# Altium footprint library DIP794W56P254L3467H406Q28N.PcbLib: 1 footprints
Each footprint in its own frame and in the unit in brackets; x right, y up, seen from the top. Pads: shape width x height; smd on the part's side, far side on the other; paste and mask are expansions set on the pad; w line width, h text height; cw(c..) or ccw(c..) is an arc to the next point about the centre after c.
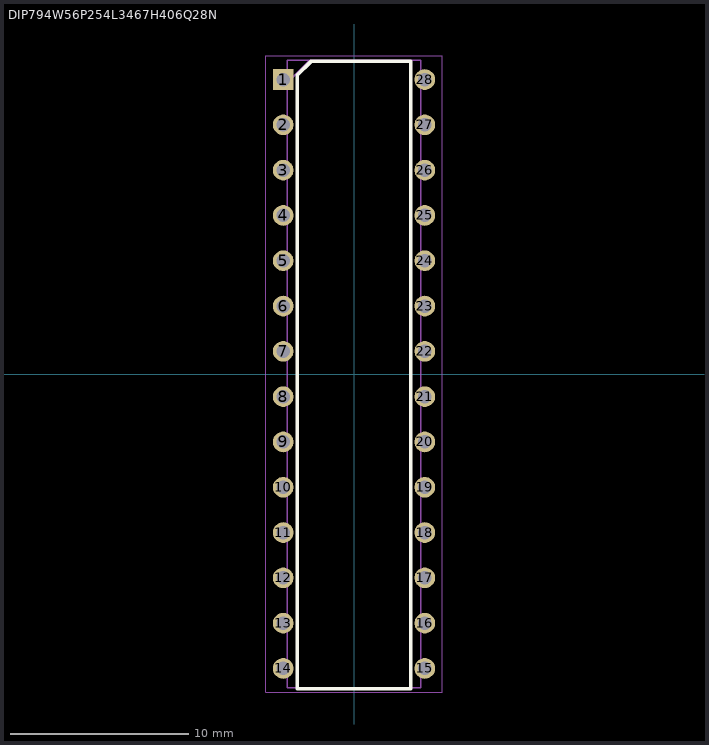
[diagram p0: the footprint, top view; thin cyan lines are the x and y axes]

## DIP794W56P254L3467H406Q28N [mm]
pads (28):
  rect 1.16x1.16 hole 0.76: 1(-3.97,16.51)
  round 1.16 hole 0.76: 2(-3.97,13.97) 3(-3.97,11.43) 4(-3.97,8.89) 5(-3.97,6.35) 6(-3.97,3.81) 7(-3.97,1.27) 8(-3.97,-1.27) 9(-3.97,-3.81) 10(-3.97,-6.35) 11(-3.97,-8.89) 12(-3.97,-11.43) 13(-3.97,-13.97) 14(-3.97,-16.51) 15(3.97,-16.51) 16(3.97,-13.97) 17(3.97,-11.43) 18(3.97,-8.89) 19(3.97,-6.35) 20(3.97,-3.81) 21(3.97,-1.27) 22(3.97,1.27) 23(3.97,3.81) 24(3.97,6.35) 25(3.97,8.89) 26(3.97,11.43) 27(3.97,13.97) 28(3.97,16.51)
Top Overlay:
  lines w0.2: -3.175,-17.653 -3.175,16.764 -2.413,17.526 3.175,17.526 3.175,-17.653 -3.175,-17.653
Mechanical 15:
  lines w0.1: -3.745,16.32 -2.475,17.59 ; -3.745,-17.59 3.745,-17.59 3.745,17.59 -3.745,17.59 -3.745,-17.59
Mechanical 20:
  lines w0.05: -4.96,-17.84 4.96,-17.84 4.96,17.84 -4.96,17.84 -4.96,-17.84